# EAGLE library part SARA-G3 (library X893)
http://www.u-blox.com/images/downloads/Product_Docs/SARA-G3_DataSheet_(UBX-13000993).pdf
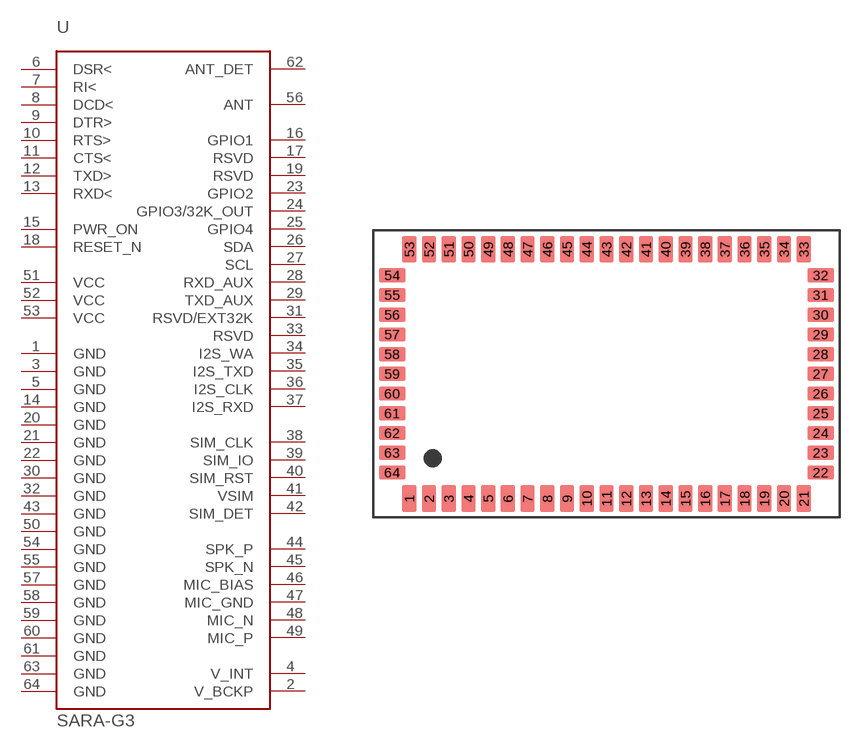
[diagram p194: symbol with the pads of SARA-G3; footprint SARA-G3]

Designator prefix U

## SARA-G3  [SARA-G3]
1  GND  pwr
2  V_BCKP
3  GND  pwr
4  V_INT
5  GND  pwr
6  DSR<  out
7  RI<  out
8  DCD<  out
9  DTR>
10  RTS>
11  CTS<  out
12  TXD>
13  RXD<  out
14  GND  pwr
15  PWR_ON
16  GPIO1
17  RSVD
18  RESET_N
19  RSVD
20  GND  pwr
21  GND  pwr
22  GND  pwr
23  GPIO2
24  GPIO3/32K_OUT
25  GPIO4
26  SDA
27  SCL
28  RXD_AUX
29  TXD_AUX
30  GND  pwr
31  RSVD/EXT32K
32  GND  pwr
33  RSVD
34  I2S_WA
35  I2S_TXD
36  I2S_CLK
37  I2S_RXD
38  SIM_CLK
39  SIM_IO
40  SIM_RST
41  VSIM
42  SIM_DET
43  GND  pwr
44  SPK_P
45  SPK_N
46  MIC_BIAS
47  MIC_GND
48  MIC_N
49  MIC_P
50  GND  pwr
51  VCC  pwr
52  VCC  pwr
53  VCC  pwr
54  GND  pwr
55  GND  pwr
56  ANT
57  GND  pwr
58  GND  pwr
59  GND  pwr
60  GND  pwr
61  GND  pwr
62  ANT_DET
63  GND  pwr
64  GND  pwr

## Footprint SARA-G3 (pad centres in mm)
smd 0.8 x 1.5: 1 -11,-6.95; 2 -9.9,-6.95; 3 -8.8,-6.95; 4 -7.7,-6.95; 5 -6.6,-6.95; 6 -5.5,-6.95; 7 -4.4,-6.95; 8 -3.3,-6.95; 9 -2.2,-6.95; 10 -1.1,-6.95; 11 0,-6.95; 12 1.1,-6.95; 13 2.2,-6.95; 14 3.3,-6.95; 15 4.4,-6.95; 16 5.5,-6.95; 17 6.6,-6.95; 18 7.7,-6.95; 19 8.8,-6.95; 20 9.9,-6.95; 21 11,-6.95; 33 11,6.95; 34 9.9,6.95; 35 8.8,6.95; 36 7.7,6.95; 37 6.6,6.95; 38 5.5,6.95; 39 4.4,6.95; 40 3.3,6.95; 41 2.2,6.95; 42 1.1,6.95; 43 0,6.95; 44 -1.1,6.95; 45 -2.2,6.95; 46 -3.3,6.95; 47 -4.4,6.95; 48 -5.5,6.95; 49 -6.6,6.95; 50 -7.7,6.95; 51 -8.8,6.95; 52 -9.9,6.95; 53 -11,6.95
smd 1.5 x 0.8: 22 11.95,-5.5; 23 11.95,-4.4; 24 11.95,-3.3; 25 11.95,-2.2; 26 11.95,-1.1; 27 11.95,0; 28 11.95,1.1; 29 11.95,2.2; 30 11.95,3.3; 31 11.95,4.4; 32 11.95,5.5; 54 -11.95,5.5; 55 -11.95,4.4; 56 -11.95,3.3; 57 -11.95,2.2; 58 -11.95,1.1; 59 -11.95,0; 60 -11.95,-1.1; 61 -11.95,-2.2; 62 -11.95,-3.3; 63 -11.95,-4.4; 64 -11.95,-5.5